# Altium schematic symbol library shared_lib.SchLib: 112 symbols (part 2 of 2)
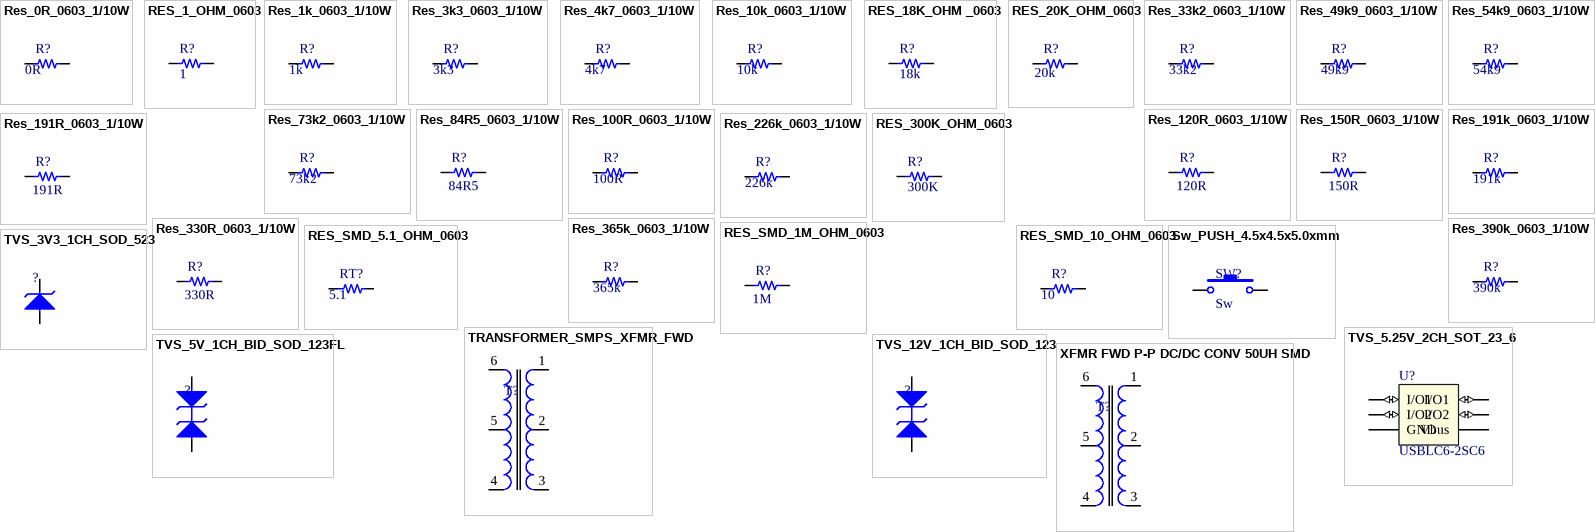
[diagram p3: symbols Res_0R_0603_1/10W to XFMR FWD P-P DC/DC CONV 50UH SMD]

## Res_330R_0603_1/10W
designator R?, comment value 330R  (hidden comment: 330R 1/10W)
RES SMD 330R OHM 5% 1/10W 0603; Manufacturer: FOJAN; Manufacturer Part Number: FRC0603J331 TS; ComponentLink1URL: https://www.lcsc.com/product-detail/Chip-Resistor-Surface-Mount_FOJAN-FRC0603J331-TS_C2907152.html; Supplier 1: LCSC; Supplier Part Number 1: C2907152; ComponentLink1Description: LCSC
footprint 0603_res (1608 Metric / 20190225 / C-A.Serna.A)
pins: 1, 2

## Res_365k_0603_1/10W
designator R?, comment value 365k  (hidden comment: 365k 1/10W)
100mW Thick Film Resistor 75V ±100ppm/℃ ±1% 365kΩ 0603 Chip Resistor - Surface Mount ROHS; Manufacturer: YAGEO; Manufacturer Part Number: RC0603FR-07365KL; ComponentLink1URL: https://lcsc.com/product-detail/Chip-Resistor-Surface-Mount_YAGEO-RC0603FR-07365KL_C185336.html; Supplier 1: LCSC; Supplier Part Number 1: C185336; ComponentLink1Description: LCSC
footprint 0603_res (1608 Metric / 20190225 / C-A.Serna.A)
pins: 1, 2

## Res_390k_0603_1/10W
designator R?, comment value 390k  (hidden comment: 390k 1/10W)
100mW Thick Film Resistor 75V ±100ppm/℃ ±1% 390kΩ 0603 Chip Resistor - Surface Mount ROHS; Manufacturer: YAGEO; Manufacturer Part Number: RC0603FR-07390KL; ComponentLink1URL: https://lcsc.com/product-detail/Chip-Resistor-Surface-Mount_YAGEO-RC0603FR-07390KL_C137735.html; Supplier 1: LCSC; Supplier Part Number 1: C137735; ComponentLink1Description: LCSC
footprint 0603_res (1608 Metric / 20190225 / C-A.Serna.A)
pins: 1, 2

## RES_SMD_1M_OHM_0603
designator R?, comment 1M
1 MOhms ±1% 0.125W, 1/8W Chip Resistor 0603 (1608 Metric) Automotive AEC-Q200 Thick Film; Manufacturer: Vishay Dale; Manufacturer Part Number: CRCW06031M00FKEA; ComponentLink1URL: https://www.lcsc.com/product-detail/C844922.html?s_z=n_q_CRCW06031M00FKEA&spm=wm.fly.bg.0.xh&lcsc_vid=FQVeX1BfQFIKVFVWE1NbBlcHQlcKVgFUQwMPAQZWElcxVlNRTlheVV1VQVNXVDsOAxUeFF5JWBYZEEoKFBINSQcJGk4dAgUUFAk%3D; Supplier 1: LCSC; Supplier Part Number 1: C844922; ComponentLink1Description: LCSC; Value: 1M
footprint 0603_res (1608 Metric / 20190225 / C-A.Serna.A)
pins: 1, 2

## RES_SMD_5.1_OHM_0603
designator RT?, comment 5.1
5.1 Ohms ±1% 0.125W, 1/8W Resistencia en microprocesador 0603 (1608 métrico) AEC-Q200 automotriz Película gruesa; Manufacturer: VISHAY; Manufacturer Part Number: CRCW06035R10FKEA; ComponentLink1URL: https://www.lcsc.com/product-detail/C242492.html?s_z=n_q_C242492&globalKeyword=C242492; Supplier 1: LCSC; Supplier Part Number 1: C242492; ComponentLink1Description: LCSC; Value: 5.1
footprint 0603_res (1608 Metric / 20190225 / C-A.Serna.A)
pins: 1, 2

## RES_SMD_10_OHM_0603
designator R?, comment 10
10 Ohms ±0.1% 0.1W, 1/10W Resistencia en microprocesador 0603 (1608 métrico) Detección de corriente Película delgada; Manufacturer: Bourns Inc.; Manufacturer Part Number: CRT0603-BY-10R0ELF; ComponentLink1URL: https://lcsc.com/product-detail/Chip-Resistor-Surface-Mount_VO-SCR0603F4K7_C3016318.html; Supplier 1: LCSC; Supplier Part Number 1: C2076354; ComponentLink1Description: LCSC; Value: 10
footprint 0603_res (1608 Metric / 20190225 / C-A.Serna.A)
pins: 1, 2

## Sw_PUSH_4.5x4.5x5.0xmm
designator SW?, comment Sw
SWITCH TACTILE SPST-NO 0.05A 12V; Manufacturer: BZCN; Manufacturer Part Number: TSC015A05026A; Supplier 1: LCSC; Supplier Part Number 1: C2888509; Last modified by: N-A.Potosi; Last modified date: 20190222; ComponentLink1Description: LCSC; ComponentLink1URL: https://www.lcsc.com/product-detail/Tactile-Switches_BZCN-TSC015A05026A_C2888509.html
footprint Sw_PUSH_4.5x4.5x5mm
pins: 1, 2

## TRANSFORMER_SMPS_XFMR_FWD
designator T?
XFMR FWD P-P DC/DC CONV 475UH SM; Manufacturer: VPSC; Manufacturer Part Number: VPT85BD-01A; ComponentLink1Description: LCSC; ComponentLink1URL: https://www.lcsc.com/product-detail/C2846911.html; Supplier 1: LCSC; Supplier Part Number 1: C2846911
footprint PAD002-T764113S
pins: 1, 2, 3, 4, 5, 6

## TVS_3V3_1CH_SOD_523
designator ?
11.2A@8/20us 200W@8/20us 14.1V 5V Unidirectional 3.3V SOD-523 ESD and Surge Protection (TVS/ESD) ROHS; Manufacturer: LRC; Manufacturer Part Number: LESD5Z3.3T1G; Supplier 1: LCSC; Supplier Part Number 1: C136161; ComponentLink1Description: LCSC; ComponentLink1URL: https://lcsc.com/product-detail/ESD-and-Surge-Protection-TVS-ESD_LRC-LESD5Z3-3T1G_C136161.html
footprint SOD_523
pins: 1, 2

## TVS_5.25V_2CH_SOT_23_6
designator U?, comment USBLC6-2SC6
TVS DIODE 5.25V 17V SOT23-6; Manufacturer: STMicroelectronics; ComponentLink1Description: LCSC; ComponentLink1URL: https://www.lcsc.com/product-detail/ESD-Protection-Devices_STMicroelectronics-USBLC6-2SC6_C7519.html; Supplier 1: LCSC; Manufacturer Part Number: USBLC6-2SC6; Supplier Part Number 1: C7519
footprint SOT_23_6 (/ 20190225 / V-A.Patino)
pins: 1 I/O1 (io), 2 GND (power), 3 I/O2 (io), 4 I/O2 (io), 5 Vbus (power), 6 I/O1 (io)

## TVS_5V_1CH_BID_SOD_123FL
designator ?, comment TVS 12V  (value not drawn)
21.7A 200W@10/1000us 9.2V 7V Bidirectional 5V SOD-123FL ESD and Surge Protection (TVS/ESD) ROHS; Manufacturer: TDSEMIC; Manufacturer Part Number: SMF5.0CA; Supplier 1: LCSC; Supplier Part Number 1: C46956338; ComponentLink1Description: LCSC; ComponentLink1URL: https://lcsc.com/product-detail/ESD-and-Surge-Protection-TVS-ESD_TDSEMIC-SMF5-0CA_C46956338.html
footprint SOD_123FL
pins: 1, 2

## TVS_12V_1CH_BID_SOD_123
designator ?, comment TVS 12V  (value not drawn)
10.1A 19.9V 200W 14.7V 13.3V SOD-123 ESD and Surge Protection (TVS/ESD) ROHS; Manufacturer: FUXINSEMI; Manufacturer Part Number: SMF12CA; Supplier 1: LCSC; Supplier Part Number 1: C6807794; ComponentLink1Description: LCSC; ComponentLink1URL: https://lcsc.com/product-detail/ESD-and-Surge-Protection-TVS-ESD_FUXINSEMI-SMF12CA_C6807794.html
footprint SOD_123FL
pins: 1, 2

## XFMR FWD P-P DC/DC CONV 50UH SMD
designator T?
Convertidores de empuje y extracción directos para Para conversores CC/CC transformadores SMPS 3750Vrms Aislamiento 420kHz Montaje en superficie; Manufacturer: Wurth Elektronik; Manufacturer Part Number: 750342879; ComponentLink1Description: JLCPCB; ComponentLink1URL: https://jlcpcb.com/partdetail/WURTHELEKTRONIK-750342879/C5343012; Supplier 1: JLCPCB; Supplier Part Number 1: C5343012
footprint 750342879
pins: 1, 2, 3, 4, 5, 6